# Altium schematic symbol library MolexMicroFit3_3POS_RA.SchLib: 1 symbol
Pins are listed as number, name and electrical type; pins without a type are passive.

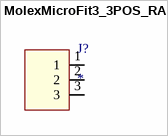
[diagram p0: symbol MolexMicroFit3_3POS_RA]

## MolexMicroFit3_3POS_RA
designator J?
CONN HEADER SMD R/A 3POS 3MM / Manufacturer PN: 0436500313
footprint MolexMicroFit3_3POS_RA
pins: 1, 2, 3